# Altium integrated library 2898_new.IntLib: 1 symbol
Pins are listed as number, name and electrical type; pins without a type are passive.

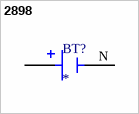
[diagram p0: symbol 2898]

## 2898
designator BT?
MP: 2898; Availability: Unavailable; Price: None; Package: None; Value: *
footprint BT_2898
pins: N NEG, P1 POS, P2 POS